# Altium footprint library SOT.PcbLib: 3 footprints
Each footprint in its own frame and in the unit in brackets; x right, y up, seen from the top. Pads: shape width x height; smd on the part's side, far side on the other; paste and mask are expansions set on the pad; w line width, h text height; cw(c..) or ccw(c..) is an arc to the next point about the centre after c.
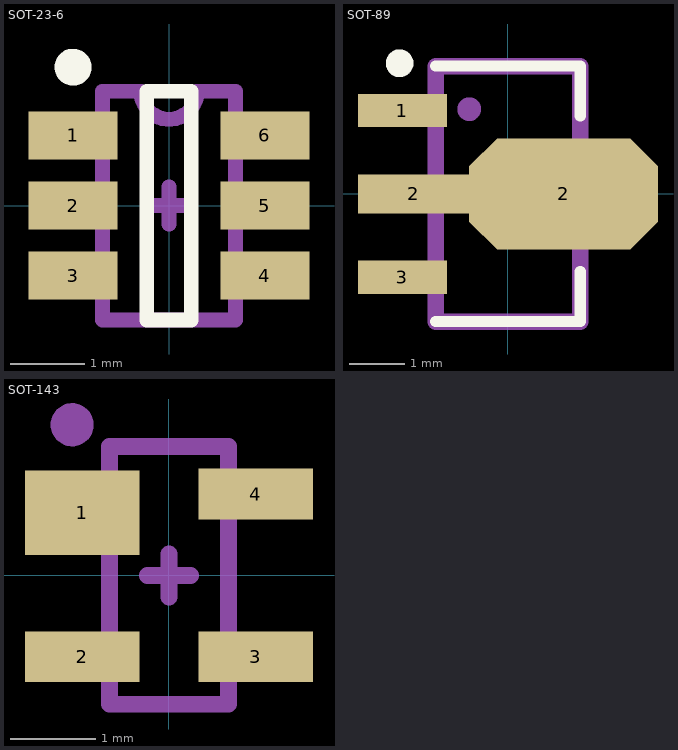
[diagram p0: the footprints below, top view; thin cyan lines are the x and y axes]

## SOT-23-6 [mm] "SOT23, 6-Leads, Body 3,1x3,0mm (max), Pitch 0,95mm, IPC Medium Density"
height 1.1
pads (6):
  rect 1.2x0.65 smd: 1(-1.3,0.95) 2(-1.3,0) 3(-1.3,-0.95) 4(1.3,-0.95) 5(1.3,0) 6(1.3,0.95)
Top Overlay:
  circle w0.25: c-1.3,1.875 r0.125
  lines w0.2: -0.3,-1.55 0.3,-1.55 0.3,1.55 -0.3,1.55 -0.3,-1.55
Top Solder:
  rectangle: -2.032,-1.397 -0.635,1.397
  rectangle: 0.635,-1.397 2.032,1.397
Mechanical 13:
  lines w0.2: -0.9,-1.55 -0.9,1.55 -0.381,1.55 ccw(c0,1.55) 0.381,1.55 0.9,1.55 0.9,-1.55 -0.9,-1.55
  text ".Designator" at -1.016,-2.667 h1.52
Mechanical 15:
  lines w0.2: -0.254,0 0.254,0 ; 0,-0.254 0,0.254
3D body: height 1.35, standoff -0.01, extent -1.5,-1.524 1.5,1.576

## SOT-89 [mm] "SOT89, 3-Leads, Body 4,5x2,4mm (max), Pitch 1,50mm, Lead Span 4,1mm, IPC Low Density"
height 1.6
pads (4):
  rect 1.6x0.6 smd: 1(-1.9,1.5) 3(-1.9,-1.5)
  rect 2x0.7 smd: 2(-1.7,0)
  oct 3.4x2 smd: 2(1,0)
Top Overlay:
  circle w0.25: c-1.95,2.35 r0.125
  lines w0.2: -1.3,-2.3 1.3,-2.3 1.3,-1.4 ; -1.3,2.3 1.3,2.3 1.3,1.4
Mechanical 13:
  circle w0.3: c-0.699,1.524 r0.064
  lines w0.3: -1.3,-2.3 1.3,-2.3 1.3,2.3 -1.3,2.3 -1.3,-2.3
  text ".Designator" at -0.381,1.143 h2.5
Mechanical 15:
  lines w0.2: -0.254,0 0.254,0 ; 0,-0.254 0,0.254
3D body: height 1.4, standoff 0, extent -2.157,-2.25 1.778,2.25

## SOT-143 [mm] "SOT143, 4-Leads, Body 3,0x2,6mm (max), Pitch 1,92mm, IPC Medium Density"
height 1.2
pads (4):
  rect 1.35x1 smd: 1(-1.025,0.74)
  rect 1.35x0.6 smd: 2(-1.025,-0.96) 3(1.025,-0.96) 4(1.025,0.96)
Mechanical 13:
  circle w0.254: c-1.143,1.778 r0.127
  lines w0.2: -0.7,-1.52 0.7,-1.52 0.7,1.52 -0.7,1.52 -0.7,-1.52
  text ".Designator" at -0.635,1.905 h1.5
Mechanical 15:
  lines w0.2: -0.254,0 0.254,0 ; 0,-0.254 0,0.254
3D body: height 1, standoff 0, extent -1.157,-1.45 1.143,1.45